# Altium footprint library Header.PcbLib: 112 footprints (part 3 of 7)
Each footprint in its own frame and in the unit in brackets; x right, y up, seen from the top. Pads: shape width x height; smd on the part's side, far side on the other; paste and mask are expansions set on the pad; w line width, h text height; cw(c..) or ccw(c..) is an arc to the next point about the centre after c.
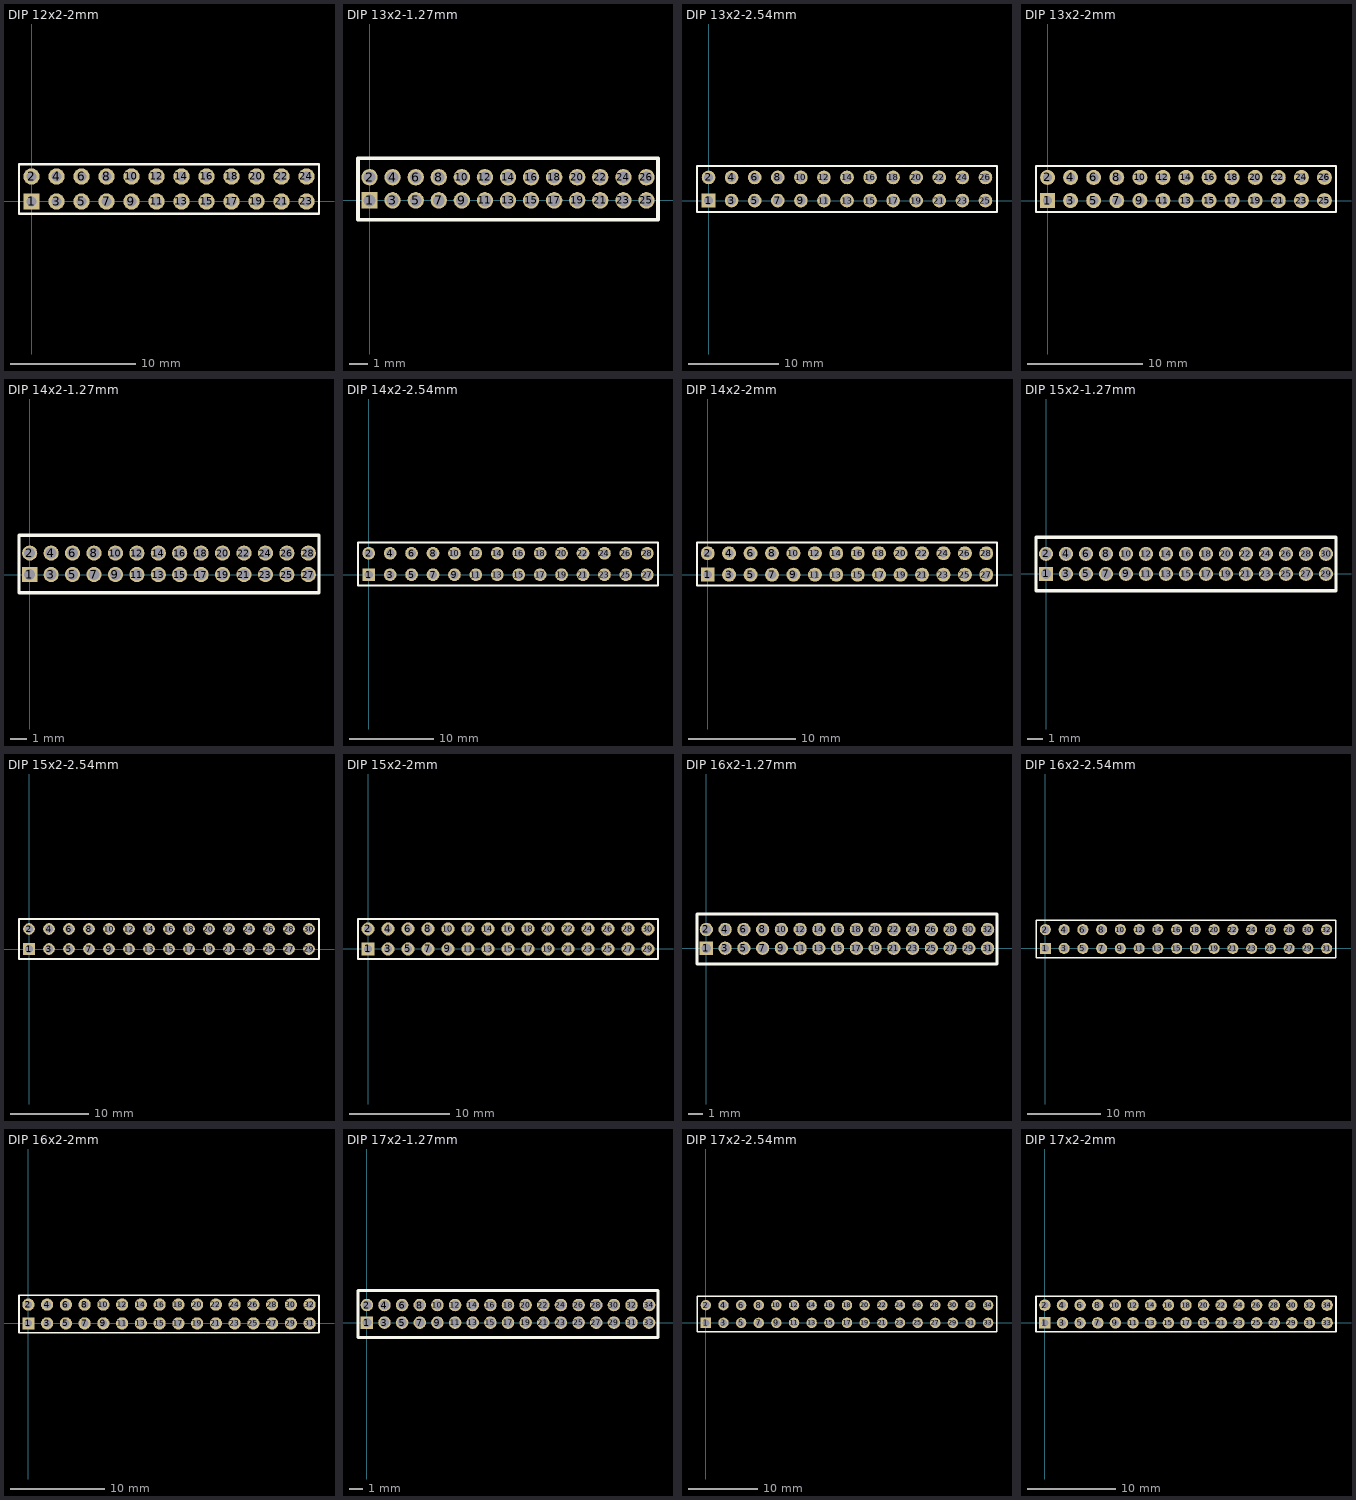
[diagram p2: the footprints below, top view; thin cyan lines are the x and y axes]

## DIP 12x2-2mm [mm]
pads (24):
  rect 1.3x1.3 hole 0.8: 1(0,0)
  round 1.3 hole 0.8: 2(0,2) 3(2,0) 4(2,2) 5(4,0) 6(4,2) 7(6,0) 8(6,2) 9(8,0) 10(8,2) 11(10,0) 12(10,2) 13(12,0) 14(12,2) 15(14,0) 16(14,2) 17(16,0) 18(16,2) 19(18,0) 20(18,2) 21(20,0) 22(20,2) 23(22,0) 24(22,2)
Top Overlay:
  lines w0.2: -1,-1 -1,3 23,3 23,-1 -1,-1
3D body: height 5.5, standoff 0, extent 21.75,-0.25 22.25,0.25
3D body: height 5.5, standoff 0, extent 21.75,1.75 22.25,2.25
3D body: height 5.5, standoff 0, extent 19.75,-0.25 20.25,0.25
3D body: height 5.5, standoff 0, extent 19.75,1.75 20.25,2.25
3D body: height 1.5, standoff 0, extent -1,-1 23,3
3D body: height 5.5, standoff 0, extent -0.25,-0.25 0.25,0.25
3D body: height 5.5, standoff 0, extent -0.25,1.75 0.25,2.25
3D body: height 5.5, standoff 0, extent 1.75,1.75 2.25,2.25
3D body: height 5.5, standoff 0, extent 1.75,-0.25 2.25,0.25
3D body: height 5.5, standoff 0, extent 3.75,1.75 4.25,2.25
3D body: height 5.5, standoff 0, extent 3.75,-0.25 4.25,0.25
3D body: height 5.5, standoff 0, extent 5.75,1.75 6.25,2.25
3D body: height 5.5, standoff 0, extent 5.75,-0.25 6.25,0.25
3D body: height 5.5, standoff 0, extent 7.75,1.75 8.25,2.25
3D body: height 5.5, standoff 0, extent 7.75,-0.25 8.25,0.25
3D body: height 5.5, standoff 0, extent 9.75,1.75 10.25,2.25
3D body: height 5.5, standoff 0, extent 9.75,-0.25 10.25,0.25
3D body: height 5.5, standoff 0, extent 11.75,1.75 12.25,2.25
3D body: height 5.5, standoff 0, extent 11.75,-0.25 12.25,0.25
3D body: height 5.5, standoff 0, extent 13.75,1.75 14.25,2.25
3D body: height 5.5, standoff 0, extent 13.75,-0.25 14.25,0.25
3D body: height 5.5, standoff 0, extent 15.75,1.75 16.25,2.25
3D body: height 5.5, standoff 0, extent 15.75,-0.25 16.25,0.25
3D body: height 5.5, standoff 0, extent 17.75,1.75 18.25,2.25
3D body: height 5.5, standoff 0, extent 17.75,-0.25 18.25,0.25

## DIP 13x2-1.27mm [mm]
pads (26):
  rect 0.9x0.9 hole 0.65: 1(0,0)
  round 0.9 hole 0.65: 2(0,1.27) 3(1.27,0) 4(1.27,1.27) 5(2.54,0) 6(2.54,1.27) 7(3.81,0) 8(3.81,1.27) 9(5.08,0) 10(5.08,1.27) 11(6.35,0) 12(6.35,1.27) 13(7.62,0) 14(7.62,1.27) 15(8.89,0) 16(8.89,1.27) 17(10.16,0) 18(10.16,1.27) 19(11.43,0) 20(11.43,1.27) 21(12.7,0) 22(12.7,1.27) 23(13.97,0) 24(13.97,1.27) 25(15.24,0) 26(15.24,1.27)
Top Overlay:
  lines w0.2: -0.635,-1.075 15.875,-1.075 15.875,2.325 -0.635,2.325 -0.635,-1.075
3D body: height 4, standoff 0, extent 4.88,1.07 5.28,1.47
3D body: height 4, standoff 0, extent 4.88,-0.2 5.28,0.2
3D body: height 1.4, standoff 0.4, extent -0.625,-1.075 15.875,2.325
3D body: height 4, standoff 0, extent -0.2,1.07 0.2,1.47
3D body: height 4, standoff 0, extent -0.2,-0.2 0.2,0.2
3D body: height 4, standoff 0, extent 1.07,-0.2 1.47,0.2
3D body: height 4, standoff 0, extent 1.07,1.07 1.47,1.47
3D body: height 4, standoff 0, extent 2.34,-0.2 2.74,0.2
3D body: height 4, standoff 0, extent 2.34,1.07 2.74,1.47
3D body: height 4, standoff 0, extent 3.61,-0.2 4.01,0.2
3D body: height 4, standoff 0, extent 3.61,1.07 4.01,1.47
3D body: height 4, standoff 0, extent 8.69,1.07 9.09,1.47
3D body: height 4, standoff 0, extent 8.69,-0.2 9.09,0.2
3D body: height 4, standoff 0, extent 7.42,1.07 7.82,1.47
3D body: height 4, standoff 0, extent 7.42,-0.2 7.82,0.2
3D body: height 4, standoff 0, extent 6.15,1.07 6.55,1.47
3D body: height 4, standoff 0, extent 6.15,-0.2 6.55,0.2
3D body: height 4, standoff 0, extent 9.96,-0.2 10.36,0.2
3D body: height 4, standoff 0, extent 9.96,1.07 10.36,1.47
3D body: height 4, standoff 0, extent 11.23,1.07 11.63,1.47
3D body: height 4, standoff 0, extent 11.23,-0.2 11.63,0.2
3D body: height 4, standoff 0, extent 12.5,-0.2 12.9,0.2
3D body: height 4, standoff 0, extent 12.5,1.07 12.9,1.47
3D body: height 4, standoff 0, extent 13.77,-0.2 14.17,0.2
3D body: height 4, standoff 0, extent 13.77,1.07 14.17,1.47
3D body: height 4, standoff 0, extent 15.04,-0.2 15.44,0.2
3D body: height 4, standoff 0, extent 15.04,1.07 15.44,1.47

## DIP 13x2-2.54mm [mm]
pads (26):
  rect 1.5x1.5 hole 1: 1(0,0)
  round 1.5 hole 1: 2(0,2.54) 3(2.54,0) 4(2.54,2.54) 5(5.08,0) 6(5.08,2.54) 7(7.62,0) 8(7.62,2.54) 9(10.16,0) 10(10.16,2.54) 11(12.7,0) 12(12.7,2.54) 13(15.24,0) 14(15.24,2.54) 15(17.78,0) 16(17.78,2.54) 17(20.32,0) 18(20.32,2.54) 19(22.86,0) 20(22.86,2.54) 21(25.4,0) 22(25.4,2.54) 23(27.94,0) 24(27.94,2.54) 25(30.48,0) 26(30.48,2.54)
Top Overlay:
  lines w0.2: -1.27,-1.27 31.75,-1.27 31.75,3.81 -1.27,3.81 -1.27,-1.27
3D body: height 7.5, standoff 0, extent 30.155,-0.325 30.805,0.325
3D body: height 7.5, standoff 0, extent 30.155,2.215 30.805,2.865
3D body: height 7.5, standoff 0, extent 25.075,-0.325 25.725,0.325
3D body: height 7.5, standoff 0, extent 25.075,2.215 25.725,2.865
3D body: height 7.5, standoff 0, extent 27.615,2.215 28.265,2.865
3D body: height 7.5, standoff 0, extent 27.615,-0.325 28.265,0.325
3D body: height 7.5, standoff 0, extent 19.995,-0.325 20.645,0.325
3D body: height 7.5, standoff 0, extent 19.995,2.215 20.645,2.865
3D body: height 7.5, standoff 0, extent 22.535,2.215 23.185,2.865
3D body: height 7.5, standoff 0, extent 22.535,-0.325 23.185,0.325
3D body: height 7.5, standoff 0, extent 14.915,-0.325 15.565,0.325
3D body: height 7.5, standoff 0, extent 14.915,2.215 15.565,2.865
3D body: height 7.5, standoff 0, extent 17.455,2.215 18.105,2.865
3D body: height 7.5, standoff 0, extent 17.455,-0.325 18.105,0.325
3D body: height 7.5, standoff 0, extent 9.835,-0.325 10.485,0.325
3D body: height 7.5, standoff 0, extent 9.835,2.215 10.485,2.865
3D body: height 7.5, standoff 0, extent 12.375,2.215 13.025,2.865
3D body: height 7.5, standoff 0, extent 12.375,-0.325 13.025,0.325
3D body: height 7.5, standoff 0, extent 4.755,-0.325 5.405,0.325
3D body: height 7.5, standoff 0, extent 4.755,2.215 5.405,2.865
3D body: height 7.5, standoff 0, extent 7.295,2.215 7.945,2.865
3D body: height 7.5, standoff 0, extent 7.295,-0.325 7.945,0.325
3D body: height 7.5, standoff 0, extent 2.215,-0.325 2.865,0.325
3D body: height 7.5, standoff 0, extent 2.215,2.215 2.865,2.865
3D body: height 7.5, standoff 0, extent -0.325,2.215 0.325,2.865
3D body: height 1.5, standoff 0, extent -1.275,-1.275 31.75,3.825
3D body: height 7.5, standoff 0, extent -0.325,-0.325 0.325,0.325

## DIP 13x2-2mm [mm]
pads (26):
  rect 1.3x1.3 hole 0.8: 1(0,0)
  round 1.3 hole 0.8: 2(0,2) 3(2,0) 4(2,2) 5(4,0) 6(4,2) 7(6,0) 8(6,2) 9(8,0) 10(8,2) 11(10,0) 12(10,2) 13(12,0) 14(12,2) 15(14,0) 16(14,2) 17(16,0) 18(16,2) 19(18,0) 20(18,2) 21(20,0) 22(20,2) 23(22,0) 24(22,2) 25(24,0) 26(24,2)
Top Overlay:
  lines w0.2: -1,-1 -1,3 25,3 25,-1 -1,-1
3D body: height 5.5, standoff 0, extent 23.75,-0.25 24.25,0.25
3D body: height 5.5, standoff 0, extent 23.75,1.75 24.25,2.25
3D body: height 5.5, standoff 0, extent 21.75,-0.25 22.25,0.25
3D body: height 5.5, standoff 0, extent 21.75,1.75 22.25,2.25
3D body: height 5.5, standoff 0, extent 19.75,-0.25 20.25,0.25
3D body: height 5.5, standoff 0, extent 19.75,1.75 20.25,2.25
3D body: height 1.5, standoff 0, extent -1,-1 25,3
3D body: height 5.5, standoff 0, extent -0.25,-0.25 0.25,0.25
3D body: height 5.5, standoff 0, extent -0.25,1.75 0.25,2.25
3D body: height 5.5, standoff 0, extent 1.75,1.75 2.25,2.25
3D body: height 5.5, standoff 0, extent 1.75,-0.25 2.25,0.25
3D body: height 5.5, standoff 0, extent 3.75,1.75 4.25,2.25
3D body: height 5.5, standoff 0, extent 3.75,-0.25 4.25,0.25
3D body: height 5.5, standoff 0, extent 5.75,1.75 6.25,2.25
3D body: height 5.5, standoff 0, extent 5.75,-0.25 6.25,0.25
3D body: height 5.5, standoff 0, extent 7.75,1.75 8.25,2.25
3D body: height 5.5, standoff 0, extent 7.75,-0.25 8.25,0.25
3D body: height 5.5, standoff 0, extent 9.75,1.75 10.25,2.25
3D body: height 5.5, standoff 0, extent 9.75,-0.25 10.25,0.25
3D body: height 5.5, standoff 0, extent 11.75,1.75 12.25,2.25
3D body: height 5.5, standoff 0, extent 11.75,-0.25 12.25,0.25
3D body: height 5.5, standoff 0, extent 13.75,1.75 14.25,2.25
3D body: height 5.5, standoff 0, extent 13.75,-0.25 14.25,0.25
3D body: height 5.5, standoff 0, extent 15.75,1.75 16.25,2.25
3D body: height 5.5, standoff 0, extent 15.75,-0.25 16.25,0.25
3D body: height 5.5, standoff 0, extent 17.75,1.75 18.25,2.25
3D body: height 5.5, standoff 0, extent 17.75,-0.25 18.25,0.25

## DIP 14x2-1.27mm [mm]
pads (28):
  rect 0.9x0.9 hole 0.65: 1(0,0)
  round 0.9 hole 0.65: 2(0,1.27) 3(1.27,0) 4(1.27,1.27) 5(2.54,0) 6(2.54,1.27) 7(3.81,0) 8(3.81,1.27) 9(5.08,0) 10(5.08,1.27) 11(6.35,0) 12(6.35,1.27) 13(7.62,0) 14(7.62,1.27) 15(8.89,0) 16(8.89,1.27) 17(10.16,0) 18(10.16,1.27) 19(11.43,0) 20(11.43,1.27) 21(12.7,0) 22(12.7,1.27) 23(13.97,0) 24(13.97,1.27) 25(15.24,0) 26(15.24,1.27) 27(16.51,0) 28(16.51,1.27)
Top Overlay:
  lines w0.2: -0.635,-1.075 17.145,-1.075 17.145,2.325 -0.635,2.325 -0.635,-1.075
3D body: height 4, standoff 0, extent 4.88,1.07 5.28,1.47
3D body: height 4, standoff 0, extent 4.88,-0.2 5.28,0.2
3D body: height 1.4, standoff 0.4, extent -0.625,-1.075 17.145,2.325
3D body: height 4, standoff 0, extent -0.2,1.07 0.2,1.47
3D body: height 4, standoff 0, extent -0.2,-0.2 0.2,0.2
3D body: height 4, standoff 0, extent 1.07,-0.2 1.47,0.2
3D body: height 4, standoff 0, extent 1.07,1.07 1.47,1.47
3D body: height 4, standoff 0, extent 2.34,-0.2 2.74,0.2
3D body: height 4, standoff 0, extent 2.34,1.07 2.74,1.47
3D body: height 4, standoff 0, extent 3.61,-0.2 4.01,0.2
3D body: height 4, standoff 0, extent 3.61,1.07 4.01,1.47
3D body: height 4, standoff 0, extent 8.69,1.07 9.09,1.47
3D body: height 4, standoff 0, extent 8.69,-0.2 9.09,0.2
3D body: height 4, standoff 0, extent 7.42,1.07 7.82,1.47
3D body: height 4, standoff 0, extent 7.42,-0.2 7.82,0.2
3D body: height 4, standoff 0, extent 6.15,1.07 6.55,1.47
3D body: height 4, standoff 0, extent 6.15,-0.2 6.55,0.2
3D body: height 4, standoff 0, extent 9.96,-0.2 10.36,0.2
3D body: height 4, standoff 0, extent 9.96,1.07 10.36,1.47
3D body: height 4, standoff 0, extent 11.23,1.07 11.63,1.47
3D body: height 4, standoff 0, extent 11.23,-0.2 11.63,0.2
3D body: height 4, standoff 0, extent 16.31,1.07 16.71,1.47
3D body: height 4, standoff 0, extent 16.31,-0.2 16.71,0.2
3D body: height 4, standoff 0, extent 12.5,-0.2 12.9,0.2
3D body: height 4, standoff 0, extent 12.5,1.07 12.9,1.47
3D body: height 4, standoff 0, extent 13.77,-0.2 14.17,0.2
3D body: height 4, standoff 0, extent 13.77,1.07 14.17,1.47
3D body: height 4, standoff 0, extent 15.04,-0.2 15.44,0.2
3D body: height 4, standoff 0, extent 15.04,1.07 15.44,1.47

## DIP 14x2-2.54mm [mm]
pads (28):
  rect 1.5x1.5 hole 1: 1(0,0)
  round 1.5 hole 1: 2(0,2.54) 3(2.54,0) 4(2.54,2.54) 5(5.08,0) 6(5.08,2.54) 7(7.62,0) 8(7.62,2.54) 9(10.16,0) 10(10.16,2.54) 11(12.7,0) 12(12.7,2.54) 13(15.24,0) 14(15.24,2.54) 15(17.78,0) 16(17.78,2.54) 17(20.32,0) 18(20.32,2.54) 19(22.86,0) 20(22.86,2.54) 21(25.4,0) 22(25.4,2.54) 23(27.94,0) 24(27.94,2.54) 25(30.48,0) 26(30.48,2.54) 27(33.02,0) 28(33.02,2.54)
Top Overlay:
  lines w0.2: -1.27,-1.27 -1.27,3.81 34.29,3.81 34.29,-1.27 -1.27,-1.27
3D body: height 7.5, standoff 0, extent -0.325,-0.325 0.325,0.325
3D body: height 1.5, standoff 0, extent -1.275,-1.275 34.29,3.825
3D body: height 7.5, standoff 0, extent -0.325,2.215 0.325,2.865
3D body: height 7.5, standoff 0, extent 2.215,2.215 2.865,2.865
3D body: height 7.5, standoff 0, extent 2.215,-0.325 2.865,0.325
3D body: height 7.5, standoff 0, extent 7.295,-0.325 7.945,0.325
3D body: height 7.5, standoff 0, extent 7.295,2.215 7.945,2.865
3D body: height 7.5, standoff 0, extent 4.755,2.215 5.405,2.865
3D body: height 7.5, standoff 0, extent 4.755,-0.325 5.405,0.325
3D body: height 7.5, standoff 0, extent 12.375,-0.325 13.025,0.325
3D body: height 7.5, standoff 0, extent 12.375,2.215 13.025,2.865
3D body: height 7.5, standoff 0, extent 9.835,2.215 10.485,2.865
3D body: height 7.5, standoff 0, extent 9.835,-0.325 10.485,0.325
3D body: height 7.5, standoff 0, extent 17.455,-0.325 18.105,0.325
3D body: height 7.5, standoff 0, extent 17.455,2.215 18.105,2.865
3D body: height 7.5, standoff 0, extent 14.915,2.215 15.565,2.865
3D body: height 7.5, standoff 0, extent 14.915,-0.325 15.565,0.325
3D body: height 7.5, standoff 0, extent 22.535,-0.325 23.185,0.325
3D body: height 7.5, standoff 0, extent 22.535,2.215 23.185,2.865
3D body: height 7.5, standoff 0, extent 19.995,2.215 20.645,2.865
3D body: height 7.5, standoff 0, extent 19.995,-0.325 20.645,0.325
3D body: height 7.5, standoff 0, extent 27.615,-0.325 28.265,0.325
3D body: height 7.5, standoff 0, extent 27.615,2.215 28.265,2.865
3D body: height 7.5, standoff 0, extent 25.075,2.215 25.725,2.865
3D body: height 7.5, standoff 0, extent 25.075,-0.325 25.725,0.325
3D body: height 7.5, standoff 0, extent 32.695,-0.325 33.345,0.325
3D body: height 7.5, standoff 0, extent 32.695,2.215 33.345,2.865
3D body: height 7.5, standoff 0, extent 30.155,2.215 30.805,2.865
3D body: height 7.5, standoff 0, extent 30.155,-0.325 30.805,0.325

## DIP 14x2-2mm [mm]
pads (28):
  rect 1.3x1.3 hole 0.8: 1(0,0)
  round 1.3 hole 0.8: 2(0,2) 3(2,0) 4(2,2) 5(4,0) 6(4,2) 7(6,0) 8(6,2) 9(8,0) 10(8,2) 11(10,0) 12(10,2) 13(12,0) 14(12,2) 15(14,0) 16(14,2) 17(16,0) 18(16,2) 19(18,0) 20(18,2) 21(20,0) 22(20,2) 23(22,0) 24(22,2) 25(24,0) 26(24,2) 27(26,0) 28(26,2)
Top Overlay:
  lines w0.2: -1,-1 -1,3 27,3 27,-1 -1,-1
3D body: height 5.5, standoff 0, extent 25.75,-0.25 26.25,0.25
3D body: height 5.5, standoff 0, extent 25.75,1.75 26.25,2.25
3D body: height 5.5, standoff 0, extent 23.75,-0.25 24.25,0.25
3D body: height 5.5, standoff 0, extent 23.75,1.75 24.25,2.25
3D body: height 5.5, standoff 0, extent 21.75,-0.25 22.25,0.25
3D body: height 5.5, standoff 0, extent 21.75,1.75 22.25,2.25
3D body: height 5.5, standoff 0, extent 19.75,-0.25 20.25,0.25
3D body: height 5.5, standoff 0, extent 19.75,1.75 20.25,2.25
3D body: height 1.5, standoff 0, extent -1,-1 27,3
3D body: height 5.5, standoff 0, extent -0.25,-0.25 0.25,0.25
3D body: height 5.5, standoff 0, extent -0.25,1.75 0.25,2.25
3D body: height 5.5, standoff 0, extent 1.75,1.75 2.25,2.25
3D body: height 5.5, standoff 0, extent 1.75,-0.25 2.25,0.25
3D body: height 5.5, standoff 0, extent 3.75,1.75 4.25,2.25
3D body: height 5.5, standoff 0, extent 3.75,-0.25 4.25,0.25
3D body: height 5.5, standoff 0, extent 5.75,1.75 6.25,2.25
3D body: height 5.5, standoff 0, extent 5.75,-0.25 6.25,0.25
3D body: height 5.5, standoff 0, extent 7.75,1.75 8.25,2.25
3D body: height 5.5, standoff 0, extent 7.75,-0.25 8.25,0.25
3D body: height 5.5, standoff 0, extent 9.75,1.75 10.25,2.25
3D body: height 5.5, standoff 0, extent 9.75,-0.25 10.25,0.25
3D body: height 5.5, standoff 0, extent 11.75,1.75 12.25,2.25
3D body: height 5.5, standoff 0, extent 11.75,-0.25 12.25,0.25
3D body: height 5.5, standoff 0, extent 13.75,1.75 14.25,2.25
3D body: height 5.5, standoff 0, extent 13.75,-0.25 14.25,0.25
3D body: height 5.5, standoff 0, extent 15.75,1.75 16.25,2.25
3D body: height 5.5, standoff 0, extent 15.75,-0.25 16.25,0.25
3D body: height 5.5, standoff 0, extent 17.75,1.75 18.25,2.25
3D body: height 5.5, standoff 0, extent 17.75,-0.25 18.25,0.25

## DIP 15x2-1.27mm [mm]
pads (30):
  rect 0.9x0.9 hole 0.65: 1(0,0)
  round 0.9 hole 0.65: 2(0,1.27) 3(1.27,0) 4(1.27,1.27) 5(2.54,0) 6(2.54,1.27) 7(3.81,0) 8(3.81,1.27) 9(5.08,0) 10(5.08,1.27) 11(6.35,0) 12(6.35,1.27) 13(7.62,0) 14(7.62,1.27) 15(8.89,0) 16(8.89,1.27) 17(10.16,0) 18(10.16,1.27) 19(11.43,0) 20(11.43,1.27) 21(12.7,0) 22(12.7,1.27) 23(13.97,0) 24(13.97,1.27) 25(15.24,0) 26(15.24,1.27) 27(16.51,0) 28(16.51,1.27) 29(17.78,0) 30(17.78,1.27)
Top Overlay:
  lines w0.2: -0.635,-1.075 18.415,-1.075 18.415,2.325 -0.635,2.325 -0.635,-1.075
3D body: height 4, standoff 0, extent 4.88,1.07 5.28,1.47
3D body: height 4, standoff 0, extent 4.88,-0.2 5.28,0.2
3D body: height 1.4, standoff 0.4, extent -0.625,-1.075 18.415,2.325
3D body: height 4, standoff 0, extent -0.2,1.07 0.2,1.47
3D body: height 4, standoff 0, extent -0.2,-0.2 0.2,0.2
3D body: height 4, standoff 0, extent 1.07,-0.2 1.47,0.2
3D body: height 4, standoff 0, extent 1.07,1.07 1.47,1.47
3D body: height 4, standoff 0, extent 2.34,-0.2 2.74,0.2
3D body: height 4, standoff 0, extent 2.34,1.07 2.74,1.47
3D body: height 4, standoff 0, extent 3.61,-0.2 4.01,0.2
3D body: height 4, standoff 0, extent 3.61,1.07 4.01,1.47
3D body: height 4, standoff 0, extent 8.69,1.07 9.09,1.47
3D body: height 4, standoff 0, extent 8.69,-0.2 9.09,0.2
3D body: height 4, standoff 0, extent 7.42,1.07 7.82,1.47
3D body: height 4, standoff 0, extent 7.42,-0.2 7.82,0.2
3D body: height 4, standoff 0, extent 6.15,1.07 6.55,1.47
3D body: height 4, standoff 0, extent 6.15,-0.2 6.55,0.2
3D body: height 4, standoff 0, extent 9.96,-0.2 10.36,0.2
3D body: height 4, standoff 0, extent 9.96,1.07 10.36,1.47
3D body: height 4, standoff 0, extent 11.23,1.07 11.63,1.47
3D body: height 4, standoff 0, extent 11.23,-0.2 11.63,0.2
3D body: height 4, standoff 0, extent 17.58,-0.2 17.98,0.2
3D body: height 4, standoff 0, extent 17.58,1.07 17.98,1.47
3D body: height 4, standoff 0, extent 16.31,1.07 16.71,1.47
3D body: height 4, standoff 0, extent 16.31,-0.2 16.71,0.2
3D body: height 4, standoff 0, extent 12.5,-0.2 12.9,0.2
3D body: height 4, standoff 0, extent 12.5,1.07 12.9,1.47
3D body: height 4, standoff 0, extent 13.77,-0.2 14.17,0.2
3D body: height 4, standoff 0, extent 13.77,1.07 14.17,1.47
3D body: height 4, standoff 0, extent 15.04,-0.2 15.44,0.2
3D body: height 4, standoff 0, extent 15.04,1.07 15.44,1.47

## DIP 15x2-2.54mm [mm]
pads (30):
  rect 1.5x1.5 hole 1: 1(0,0)
  round 1.5 hole 1: 2(0,2.54) 3(2.54,0) 4(2.54,2.54) 5(5.08,0) 6(5.08,2.54) 7(7.62,0) 8(7.62,2.54) 9(10.16,0) 10(10.16,2.54) 11(12.7,0) 12(12.7,2.54) 13(15.24,0) 14(15.24,2.54) 15(17.78,0) 16(17.78,2.54) 17(20.32,0) 18(20.32,2.54) 19(22.86,0) 20(22.86,2.54) 21(25.4,0) 22(25.4,2.54) 23(27.94,0) 24(27.94,2.54) 25(30.48,0) 26(30.48,2.54) 27(33.02,0) 28(33.02,2.54) 29(35.56,0) 30(35.56,2.54)
Top Overlay:
  lines w0.2: -1.27,-1.27 -1.27,3.81 36.83,3.81 36.83,-1.27 -1.27,-1.27
3D body: height 7.5, standoff 0, extent -0.325,-0.325 0.325,0.325
3D body: height 1.5, standoff 0, extent -1.275,-1.275 36.83,3.825
3D body: height 7.5, standoff 0, extent -0.325,2.215 0.325,2.865
3D body: height 7.5, standoff 0, extent 2.215,2.215 2.865,2.865
3D body: height 7.5, standoff 0, extent 2.215,-0.325 2.865,0.325
3D body: height 7.5, standoff 0, extent 7.295,-0.325 7.945,0.325
3D body: height 7.5, standoff 0, extent 7.295,2.215 7.945,2.865
3D body: height 7.5, standoff 0, extent 4.755,2.215 5.405,2.865
3D body: height 7.5, standoff 0, extent 4.755,-0.325 5.405,0.325
3D body: height 7.5, standoff 0, extent 12.375,-0.325 13.025,0.325
3D body: height 7.5, standoff 0, extent 12.375,2.215 13.025,2.865
3D body: height 7.5, standoff 0, extent 9.835,2.215 10.485,2.865
3D body: height 7.5, standoff 0, extent 9.835,-0.325 10.485,0.325
3D body: height 7.5, standoff 0, extent 17.455,-0.325 18.105,0.325
3D body: height 7.5, standoff 0, extent 17.455,2.215 18.105,2.865
3D body: height 7.5, standoff 0, extent 14.915,2.215 15.565,2.865
3D body: height 7.5, standoff 0, extent 14.915,-0.325 15.565,0.325
3D body: height 7.5, standoff 0, extent 22.535,-0.325 23.185,0.325
3D body: height 7.5, standoff 0, extent 22.535,2.215 23.185,2.865
3D body: height 7.5, standoff 0, extent 19.995,2.215 20.645,2.865
3D body: height 7.5, standoff 0, extent 19.995,-0.325 20.645,0.325
3D body: height 7.5, standoff 0, extent 27.615,-0.325 28.265,0.325
3D body: height 7.5, standoff 0, extent 27.615,2.215 28.265,2.865
3D body: height 7.5, standoff 0, extent 25.075,2.215 25.725,2.865
3D body: height 7.5, standoff 0, extent 25.075,-0.325 25.725,0.325
3D body: height 7.5, standoff 0, extent 32.695,-0.325 33.345,0.325
3D body: height 7.5, standoff 0, extent 32.695,2.215 33.345,2.865
3D body: height 7.5, standoff 0, extent 30.155,2.215 30.805,2.865
3D body: height 7.5, standoff 0, extent 30.155,-0.325 30.805,0.325
3D body: height 7.5, standoff 0, extent 35.235,2.215 35.885,2.865
3D body: height 7.5, standoff 0, extent 35.235,-0.325 35.885,0.325

## DIP 15x2-2mm [mm]
pads (30):
  rect 1.3x1.3 hole 0.8: 1(0,0)
  round 1.3 hole 0.8: 2(0,2) 3(2,0) 4(2,2) 5(4,0) 6(4,2) 7(6,0) 8(6,2) 9(8,0) 10(8,2) 11(10,0) 12(10,2) 13(12,0) 14(12,2) 15(14,0) 16(14,2) 17(16,0) 18(16,2) 19(18,0) 20(18,2) 21(20,0) 22(20,2) 23(22,0) 24(22,2) 25(24,0) 26(24,2) 27(26,0) 28(26,2) 29(28,0) 30(28,2)
Top Overlay:
  lines w0.2: -1,-1 -1,3 29,3 29,-1 -1,-1
3D body: height 5.5, standoff 0, extent 27.75,-0.25 28.25,0.25
3D body: height 5.5, standoff 0, extent 27.75,1.75 28.25,2.25
3D body: height 5.5, standoff 0, extent 25.75,-0.25 26.25,0.25
3D body: height 5.5, standoff 0, extent 25.75,1.75 26.25,2.25
3D body: height 5.5, standoff 0, extent 23.75,-0.25 24.25,0.25
3D body: height 5.5, standoff 0, extent 23.75,1.75 24.25,2.25
3D body: height 5.5, standoff 0, extent 21.75,-0.25 22.25,0.25
3D body: height 5.5, standoff 0, extent 21.75,1.75 22.25,2.25
3D body: height 5.5, standoff 0, extent 19.75,-0.25 20.25,0.25
3D body: height 5.5, standoff 0, extent 19.75,1.75 20.25,2.25
3D body: height 1.5, standoff 0, extent -1,-1 29,3
3D body: height 5.5, standoff 0, extent -0.25,-0.25 0.25,0.25
3D body: height 5.5, standoff 0, extent -0.25,1.75 0.25,2.25
3D body: height 5.5, standoff 0, extent 1.75,1.75 2.25,2.25
3D body: height 5.5, standoff 0, extent 1.75,-0.25 2.25,0.25
3D body: height 5.5, standoff 0, extent 3.75,1.75 4.25,2.25
3D body: height 5.5, standoff 0, extent 3.75,-0.25 4.25,0.25
3D body: height 5.5, standoff 0, extent 5.75,1.75 6.25,2.25
3D body: height 5.5, standoff 0, extent 5.75,-0.25 6.25,0.25
3D body: height 5.5, standoff 0, extent 7.75,1.75 8.25,2.25
3D body: height 5.5, standoff 0, extent 7.75,-0.25 8.25,0.25
3D body: height 5.5, standoff 0, extent 9.75,1.75 10.25,2.25
3D body: height 5.5, standoff 0, extent 9.75,-0.25 10.25,0.25
3D body: height 5.5, standoff 0, extent 11.75,1.75 12.25,2.25
3D body: height 5.5, standoff 0, extent 11.75,-0.25 12.25,0.25
3D body: height 5.5, standoff 0, extent 13.75,1.75 14.25,2.25
3D body: height 5.5, standoff 0, extent 13.75,-0.25 14.25,0.25
3D body: height 5.5, standoff 0, extent 15.75,1.75 16.25,2.25
3D body: height 5.5, standoff 0, extent 15.75,-0.25 16.25,0.25
3D body: height 5.5, standoff 0, extent 17.75,1.75 18.25,2.25
3D body: height 5.5, standoff 0, extent 17.75,-0.25 18.25,0.25

## DIP 16x2-1.27mm [mm]
pads (32):
  rect 0.9x0.9 hole 0.65: 1(0,0)
  round 0.9 hole 0.65: 2(0,1.27) 3(1.27,0) 4(1.27,1.27) 5(2.54,0) 6(2.54,1.27) 7(3.81,0) 8(3.81,1.27) 9(5.08,0) 10(5.08,1.27) 11(6.35,0) 12(6.35,1.27) 13(7.62,0) 14(7.62,1.27) 15(8.89,0) 16(8.89,1.27) 17(10.16,0) 18(10.16,1.27) 19(11.43,0) 20(11.43,1.27) 21(12.7,0) 22(12.7,1.27) 23(13.97,0) 24(13.97,1.27) 25(15.24,0) 26(15.24,1.27) 27(16.51,0) 28(16.51,1.27) 29(17.78,0) 30(17.78,1.27) 31(19.05,0) 32(19.05,1.27)
Top Overlay:
  lines w0.2: -0.635,-1.075 19.685,-1.075 19.685,2.325 -0.635,2.325 -0.635,-1.075
3D body: height 4, standoff 0, extent 4.88,1.07 5.28,1.47
3D body: height 4, standoff 0, extent 4.88,-0.2 5.28,0.2
3D body: height 1.4, standoff 0.4, extent -0.625,-1.075 19.685,2.325
3D body: height 4, standoff 0, extent -0.2,1.07 0.2,1.47
3D body: height 4, standoff 0, extent -0.2,-0.2 0.2,0.2
3D body: height 4, standoff 0, extent 1.07,-0.2 1.47,0.2
3D body: height 4, standoff 0, extent 1.07,1.07 1.47,1.47
3D body: height 4, standoff 0, extent 2.34,-0.2 2.74,0.2
3D body: height 4, standoff 0, extent 2.34,1.07 2.74,1.47
3D body: height 4, standoff 0, extent 3.61,-0.2 4.01,0.2
3D body: height 4, standoff 0, extent 3.61,1.07 4.01,1.47
3D body: height 4, standoff 0, extent 8.69,1.07 9.09,1.47
3D body: height 4, standoff 0, extent 8.69,-0.2 9.09,0.2
3D body: height 4, standoff 0, extent 7.42,1.07 7.82,1.47
3D body: height 4, standoff 0, extent 7.42,-0.2 7.82,0.2
3D body: height 4, standoff 0, extent 6.15,1.07 6.55,1.47
3D body: height 4, standoff 0, extent 6.15,-0.2 6.55,0.2
3D body: height 4, standoff 0, extent 9.96,-0.2 10.36,0.2
3D body: height 4, standoff 0, extent 9.96,1.07 10.36,1.47
3D body: height 4, standoff 0, extent 11.23,1.07 11.63,1.47
3D body: height 4, standoff 0, extent 11.23,-0.2 11.63,0.2
3D body: height 4, standoff 0, extent 17.58,-0.2 17.98,0.2
3D body: height 4, standoff 0, extent 17.58,1.07 17.98,1.47
3D body: height 4, standoff 0, extent 16.31,1.07 16.71,1.47
3D body: height 4, standoff 0, extent 16.31,-0.2 16.71,0.2
3D body: height 4, standoff 0, extent 12.5,-0.2 12.9,0.2
3D body: height 4, standoff 0, extent 12.5,1.07 12.9,1.47
3D body: height 4, standoff 0, extent 13.77,-0.2 14.17,0.2
3D body: height 4, standoff 0, extent 13.77,1.07 14.17,1.47
3D body: height 4, standoff 0, extent 15.04,-0.2 15.44,0.2
3D body: height 4, standoff 0, extent 15.04,1.07 15.44,1.47
3D body: height 4, standoff 0, extent 18.85,-0.2 19.25,0.2
3D body: height 4, standoff 0, extent 18.85,1.07 19.25,1.47

## DIP 16x2-2.54mm [mm]
pads (32):
  rect 1.5x1.5 hole 1: 1(0,0)
  round 1.5 hole 1: 2(0,2.54) 3(2.54,0) 4(2.54,2.54) 5(5.08,0) 6(5.08,2.54) 7(7.62,0) 8(7.62,2.54) 9(10.16,0) 10(10.16,2.54) 11(12.7,0) 12(12.7,2.54) 13(15.24,0) 14(15.24,2.54) 15(17.78,0) 16(17.78,2.54) 17(20.32,0) 18(20.32,2.54) 19(22.86,0) 20(22.86,2.54) 21(25.4,0) 22(25.4,2.54) 23(27.94,0) 24(27.94,2.54) 25(30.48,0) 26(30.48,2.54) 27(33.02,0) 28(33.02,2.54) 29(35.56,0) 30(35.56,2.54) 31(38.1,0) 32(38.1,2.54)
Top Overlay:
  lines w0.2: -1.27,-1.27 39.37,-1.27 39.37,3.81 -1.27,3.81 -1.27,-1.27
3D body: height 7.5, standoff 0, extent 35.235,-0.325 35.885,0.325
3D body: height 7.5, standoff 0, extent 35.235,2.215 35.885,2.865
3D body: height 7.5, standoff 0, extent 37.775,2.215 38.425,2.865
3D body: height 7.5, standoff 0, extent 37.775,-0.325 38.425,0.325
3D body: height 7.5, standoff 0, extent 30.155,-0.325 30.805,0.325
3D body: height 7.5, standoff 0, extent 30.155,2.215 30.805,2.865
3D body: height 7.5, standoff 0, extent 32.695,2.215 33.345,2.865
3D body: height 7.5, standoff 0, extent 32.695,-0.325 33.345,0.325
3D body: height 7.5, standoff 0, extent 25.075,-0.325 25.725,0.325
3D body: height 7.5, standoff 0, extent 25.075,2.215 25.725,2.865
3D body: height 7.5, standoff 0, extent 27.615,2.215 28.265,2.865
3D body: height 7.5, standoff 0, extent 27.615,-0.325 28.265,0.325
3D body: height 7.5, standoff 0, extent 19.995,-0.325 20.645,0.325
3D body: height 7.5, standoff 0, extent 19.995,2.215 20.645,2.865
3D body: height 7.5, standoff 0, extent 22.535,2.215 23.185,2.865
3D body: height 7.5, standoff 0, extent 22.535,-0.325 23.185,0.325
3D body: height 7.5, standoff 0, extent 14.915,-0.325 15.565,0.325
3D body: height 7.5, standoff 0, extent 14.915,2.215 15.565,2.865
3D body: height 7.5, standoff 0, extent 17.455,2.215 18.105,2.865
3D body: height 7.5, standoff 0, extent 17.455,-0.325 18.105,0.325
3D body: height 7.5, standoff 0, extent 9.835,-0.325 10.485,0.325
3D body: height 7.5, standoff 0, extent 9.835,2.215 10.485,2.865
3D body: height 7.5, standoff 0, extent 12.375,2.215 13.025,2.865
3D body: height 7.5, standoff 0, extent 12.375,-0.325 13.025,0.325
3D body: height 7.5, standoff 0, extent 4.755,-0.325 5.405,0.325
3D body: height 7.5, standoff 0, extent 4.755,2.215 5.405,2.865
3D body: height 7.5, standoff 0, extent 7.295,2.215 7.945,2.865
3D body: height 7.5, standoff 0, extent 7.295,-0.325 7.945,0.325
3D body: height 7.5, standoff 0, extent 2.215,-0.325 2.865,0.325
3D body: height 7.5, standoff 0, extent 2.215,2.215 2.865,2.865
3D body: height 7.5, standoff 0, extent -0.325,2.215 0.325,2.865
3D body: height 1.5, standoff 0, extent -1.275,-1.275 39.37,3.825
3D body: height 7.5, standoff 0, extent -0.325,-0.325 0.325,0.325

## DIP 16x2-2mm [mm]
pads (32):
  rect 1.3x1.3 hole 0.8: 1(0,0)
  round 1.3 hole 0.8: 2(0,2) 3(2,0) 4(2,2) 5(4,0) 6(4,2) 7(6,0) 8(6,2) 9(8,0) 10(8,2) 11(10,0) 12(10,2) 13(12,0) 14(12,2) 15(14,0) 16(14,2) 17(16,0) 18(16,2) 19(18,0) 20(18,2) 21(20,0) 22(20,2) 23(22,0) 24(22,2) 25(24,0) 26(24,2) 27(26,0) 28(26,2) 29(28,0) 30(28,2) 31(30,0) 32(30,2)
Top Overlay:
  lines w0.2: -1,-1 -1,3 31,3 31,-1 -1,-1
3D body: height 5.5, standoff 0, extent 29.75,-0.25 30.25,0.25
3D body: height 5.5, standoff 0, extent 29.75,1.75 30.25,2.25
3D body: height 5.5, standoff 0, extent 27.75,-0.25 28.25,0.25
3D body: height 5.5, standoff 0, extent 27.75,1.75 28.25,2.25
3D body: height 5.5, standoff 0, extent 25.75,-0.25 26.25,0.25
3D body: height 5.5, standoff 0, extent 25.75,1.75 26.25,2.25
3D body: height 5.5, standoff 0, extent 23.75,-0.25 24.25,0.25
3D body: height 5.5, standoff 0, extent 23.75,1.75 24.25,2.25
3D body: height 5.5, standoff 0, extent 21.75,-0.25 22.25,0.25
3D body: height 5.5, standoff 0, extent 21.75,1.75 22.25,2.25
3D body: height 5.5, standoff 0, extent 19.75,-0.25 20.25,0.25
3D body: height 5.5, standoff 0, extent 19.75,1.75 20.25,2.25
3D body: height 1.5, standoff 0, extent -1,-1 31,3
3D body: height 5.5, standoff 0, extent -0.25,-0.25 0.25,0.25
3D body: height 5.5, standoff 0, extent -0.25,1.75 0.25,2.25
3D body: height 5.5, standoff 0, extent 1.75,1.75 2.25,2.25
3D body: height 5.5, standoff 0, extent 1.75,-0.25 2.25,0.25
3D body: height 5.5, standoff 0, extent 3.75,1.75 4.25,2.25
3D body: height 5.5, standoff 0, extent 3.75,-0.25 4.25,0.25
3D body: height 5.5, standoff 0, extent 5.75,1.75 6.25,2.25
3D body: height 5.5, standoff 0, extent 5.75,-0.25 6.25,0.25
3D body: height 5.5, standoff 0, extent 7.75,1.75 8.25,2.25
3D body: height 5.5, standoff 0, extent 7.75,-0.25 8.25,0.25
3D body: height 5.5, standoff 0, extent 9.75,1.75 10.25,2.25
3D body: height 5.5, standoff 0, extent 9.75,-0.25 10.25,0.25
3D body: height 5.5, standoff 0, extent 11.75,1.75 12.25,2.25
3D body: height 5.5, standoff 0, extent 11.75,-0.25 12.25,0.25
3D body: height 5.5, standoff 0, extent 13.75,1.75 14.25,2.25
3D body: height 5.5, standoff 0, extent 13.75,-0.25 14.25,0.25
3D body: height 5.5, standoff 0, extent 15.75,1.75 16.25,2.25
3D body: height 5.5, standoff 0, extent 15.75,-0.25 16.25,0.25
3D body: height 5.5, standoff 0, extent 17.75,1.75 18.25,2.25
3D body: height 5.5, standoff 0, extent 17.75,-0.25 18.25,0.25

## DIP 17x2-1.27mm [mm]
pads (34):
  rect 0.9x0.9 hole 0.65: 1(0,0)
  round 0.9 hole 0.65: 2(0,1.27) 3(1.27,0) 4(1.27,1.27) 5(2.54,0) 6(2.54,1.27) 7(3.81,0) 8(3.81,1.27) 9(5.08,0) 10(5.08,1.27) 11(6.35,0) 12(6.35,1.27) 13(7.62,0) 14(7.62,1.27) 15(8.89,0) 16(8.89,1.27) 17(10.16,0) 18(10.16,1.27) 19(11.43,0) 20(11.43,1.27) 21(12.7,0) 22(12.7,1.27) 23(13.97,0) 24(13.97,1.27) 25(15.24,0) 26(15.24,1.27) 27(16.51,0) 28(16.51,1.27) 29(17.78,0) 30(17.78,1.27) 31(19.05,0) 32(19.05,1.27) 33(20.32,0) 34(20.32,1.27)
Top Overlay:
  lines w0.2: -0.635,-1.075 20.955,-1.075 20.955,2.325 -0.635,2.325 -0.635,-1.075
3D body: height 4, standoff 0, extent 4.88,1.07 5.28,1.47
3D body: height 4, standoff 0, extent 4.88,-0.2 5.28,0.2
3D body: height 1.4, standoff 0.4, extent -0.625,-1.075 20.955,2.325
3D body: height 4, standoff 0, extent -0.2,1.07 0.2,1.47
3D body: height 4, standoff 0, extent -0.2,-0.2 0.2,0.2
3D body: height 4, standoff 0, extent 1.07,-0.2 1.47,0.2
3D body: height 4, standoff 0, extent 1.07,1.07 1.47,1.47
3D body: height 4, standoff 0, extent 2.34,-0.2 2.74,0.2
3D body: height 4, standoff 0, extent 2.34,1.07 2.74,1.47
3D body: height 4, standoff 0, extent 3.61,-0.2 4.01,0.2
3D body: height 4, standoff 0, extent 3.61,1.07 4.01,1.47
3D body: height 4, standoff 0, extent 8.69,1.07 9.09,1.47
3D body: height 4, standoff 0, extent 8.69,-0.2 9.09,0.2
3D body: height 4, standoff 0, extent 7.42,1.07 7.82,1.47
3D body: height 4, standoff 0, extent 7.42,-0.2 7.82,0.2
3D body: height 4, standoff 0, extent 6.15,1.07 6.55,1.47
3D body: height 4, standoff 0, extent 6.15,-0.2 6.55,0.2
3D body: height 4, standoff 0, extent 9.96,-0.2 10.36,0.2
3D body: height 4, standoff 0, extent 9.96,1.07 10.36,1.47
3D body: height 4, standoff 0, extent 11.23,1.07 11.63,1.47
3D body: height 4, standoff 0, extent 11.23,-0.2 11.63,0.2
3D body: height 4, standoff 0, extent 17.58,-0.2 17.98,0.2
3D body: height 4, standoff 0, extent 17.58,1.07 17.98,1.47
3D body: height 4, standoff 0, extent 16.31,1.07 16.71,1.47
3D body: height 4, standoff 0, extent 16.31,-0.2 16.71,0.2
3D body: height 4, standoff 0, extent 12.5,-0.2 12.9,0.2
3D body: height 4, standoff 0, extent 12.5,1.07 12.9,1.47
3D body: height 4, standoff 0, extent 13.77,-0.2 14.17,0.2
3D body: height 4, standoff 0, extent 13.77,1.07 14.17,1.47
3D body: height 4, standoff 0, extent 15.04,-0.2 15.44,0.2
3D body: height 4, standoff 0, extent 15.04,1.07 15.44,1.47
3D body: height 4, standoff 0, extent 18.85,-0.2 19.25,0.2
3D body: height 4, standoff 0, extent 18.85,1.07 19.25,1.47
3D body: height 4, standoff 0, extent 20.12,-0.2 20.52,0.2
3D body: height 4, standoff 0, extent 20.12,1.07 20.52,1.47

## DIP 17x2-2.54mm [mm]
pads (34):
  rect 1.5x1.5 hole 1: 1(0,0)
  round 1.5 hole 1: 2(0,2.54) 3(2.54,0) 4(2.54,2.54) 5(5.08,0) 6(5.08,2.54) 7(7.62,0) 8(7.62,2.54) 9(10.16,0) 10(10.16,2.54) 11(12.7,0) 12(12.7,2.54) 13(15.24,0) 14(15.24,2.54) 15(17.78,0) 16(17.78,2.54) 17(20.32,0) 18(20.32,2.54) 19(22.86,0) 20(22.86,2.54) 21(25.4,0) 22(25.4,2.54) 23(27.94,0) 24(27.94,2.54) 25(30.48,0) 26(30.48,2.54) 27(33.02,0) 28(33.02,2.54) 29(35.56,0) 30(35.56,2.54) 31(38.1,0) 32(38.1,2.54) 33(40.64,0) 34(40.64,2.54)
Top Overlay:
  lines w0.2: -1.27,-1.27 41.91,-1.27 41.91,3.81 -1.27,3.81 -1.27,-1.27
3D body: height 7.5, standoff 0, extent 40.315,-0.325 40.965,0.325
3D body: height 7.5, standoff 0, extent 40.315,2.215 40.965,2.865
3D body: height 7.5, standoff 0, extent 35.235,-0.325 35.885,0.325
3D body: height 7.5, standoff 0, extent 35.235,2.215 35.885,2.865
3D body: height 7.5, standoff 0, extent 37.775,2.215 38.425,2.865
3D body: height 7.5, standoff 0, extent 37.775,-0.325 38.425,0.325
3D body: height 7.5, standoff 0, extent 30.155,-0.325 30.805,0.325
3D body: height 7.5, standoff 0, extent 30.155,2.215 30.805,2.865
3D body: height 7.5, standoff 0, extent 32.695,2.215 33.345,2.865
3D body: height 7.5, standoff 0, extent 32.695,-0.325 33.345,0.325
3D body: height 7.5, standoff 0, extent 25.075,-0.325 25.725,0.325
3D body: height 7.5, standoff 0, extent 25.075,2.215 25.725,2.865
3D body: height 7.5, standoff 0, extent 27.615,2.215 28.265,2.865
3D body: height 7.5, standoff 0, extent 27.615,-0.325 28.265,0.325
3D body: height 7.5, standoff 0, extent 19.995,-0.325 20.645,0.325
3D body: height 7.5, standoff 0, extent 19.995,2.215 20.645,2.865
3D body: height 7.5, standoff 0, extent 22.535,2.215 23.185,2.865
3D body: height 7.5, standoff 0, extent 22.535,-0.325 23.185,0.325
3D body: height 7.5, standoff 0, extent 14.915,-0.325 15.565,0.325
3D body: height 7.5, standoff 0, extent 14.915,2.215 15.565,2.865
3D body: height 7.5, standoff 0, extent 17.455,2.215 18.105,2.865
3D body: height 7.5, standoff 0, extent 17.455,-0.325 18.105,0.325
3D body: height 7.5, standoff 0, extent 9.835,-0.325 10.485,0.325
3D body: height 7.5, standoff 0, extent 9.835,2.215 10.485,2.865
3D body: height 7.5, standoff 0, extent 12.375,2.215 13.025,2.865
3D body: height 7.5, standoff 0, extent 12.375,-0.325 13.025,0.325
3D body: height 7.5, standoff 0, extent 4.755,-0.325 5.405,0.325
3D body: height 7.5, standoff 0, extent 4.755,2.215 5.405,2.865
3D body: height 7.5, standoff 0, extent 7.295,2.215 7.945,2.865
3D body: height 7.5, standoff 0, extent 7.295,-0.325 7.945,0.325
3D body: height 7.5, standoff 0, extent 2.215,-0.325 2.865,0.325
3D body: height 7.5, standoff 0, extent 2.215,2.215 2.865,2.865
3D body: height 7.5, standoff 0, extent -0.325,2.215 0.325,2.865
3D body: height 1.5, standoff 0, extent -1.275,-1.275 41.91,3.825
3D body: height 7.5, standoff 0, extent -0.325,-0.325 0.325,0.325

## DIP 17x2-2mm [mm]
pads (34):
  rect 1.3x1.3 hole 0.8: 1(0,0)
  round 1.3 hole 0.8: 2(0,2) 3(2,0) 4(2,2) 5(4,0) 6(4,2) 7(6,0) 8(6,2) 9(8,0) 10(8,2) 11(10,0) 12(10,2) 13(12,0) 14(12,2) 15(14,0) 16(14,2) 17(16,0) 18(16,2) 19(18,0) 20(18,2) 21(20,0) 22(20,2) 23(22,0) 24(22,2) 25(24,0) 26(24,2) 27(26,0) 28(26,2) 29(28,0) 30(28,2) 31(30,0) 32(30,2) 33(32,0) 34(32,2)
Top Overlay:
  lines w0.2: -1,-1 -1,3 33,3 33,-1 -1,-1
3D body: height 5.5, standoff 0, extent 31.75,-0.25 32.25,0.25
3D body: height 5.5, standoff 0, extent 31.75,1.75 32.25,2.25
3D body: height 5.5, standoff 0, extent 29.75,-0.25 30.25,0.25
3D body: height 5.5, standoff 0, extent 29.75,1.75 30.25,2.25
3D body: height 5.5, standoff 0, extent 27.75,-0.25 28.25,0.25
3D body: height 5.5, standoff 0, extent 27.75,1.75 28.25,2.25
3D body: height 5.5, standoff 0, extent 25.75,-0.25 26.25,0.25
3D body: height 5.5, standoff 0, extent 25.75,1.75 26.25,2.25
3D body: height 5.5, standoff 0, extent 23.75,-0.25 24.25,0.25
3D body: height 5.5, standoff 0, extent 23.75,1.75 24.25,2.25
3D body: height 5.5, standoff 0, extent 21.75,-0.25 22.25,0.25
3D body: height 5.5, standoff 0, extent 21.75,1.75 22.25,2.25
3D body: height 5.5, standoff 0, extent 19.75,-0.25 20.25,0.25
3D body: height 5.5, standoff 0, extent 19.75,1.75 20.25,2.25
3D body: height 1.5, standoff 0, extent -1,-1 33,3
3D body: height 5.5, standoff 0, extent -0.25,-0.25 0.25,0.25
3D body: height 5.5, standoff 0, extent -0.25,1.75 0.25,2.25
3D body: height 5.5, standoff 0, extent 1.75,1.75 2.25,2.25
3D body: height 5.5, standoff 0, extent 1.75,-0.25 2.25,0.25
3D body: height 5.5, standoff 0, extent 3.75,1.75 4.25,2.25
3D body: height 5.5, standoff 0, extent 3.75,-0.25 4.25,0.25
3D body: height 5.5, standoff 0, extent 5.75,1.75 6.25,2.25
3D body: height 5.5, standoff 0, extent 5.75,-0.25 6.25,0.25
3D body: height 5.5, standoff 0, extent 7.75,1.75 8.25,2.25
3D body: height 5.5, standoff 0, extent 7.75,-0.25 8.25,0.25
3D body: height 5.5, standoff 0, extent 9.75,1.75 10.25,2.25
3D body: height 5.5, standoff 0, extent 9.75,-0.25 10.25,0.25
3D body: height 5.5, standoff 0, extent 11.75,1.75 12.25,2.25
3D body: height 5.5, standoff 0, extent 11.75,-0.25 12.25,0.25
3D body: height 5.5, standoff 0, extent 13.75,1.75 14.25,2.25
3D body: height 5.5, standoff 0, extent 13.75,-0.25 14.25,0.25
3D body: height 5.5, standoff 0, extent 15.75,1.75 16.25,2.25
3D body: height 5.5, standoff 0, extent 15.75,-0.25 16.25,0.25
3D body: height 5.5, standoff 0, extent 17.75,1.75 18.25,2.25
3D body: height 5.5, standoff 0, extent 17.75,-0.25 18.25,0.25